# EAGLE library part LPC1113FBD48/302,1 (library WM_Parts)
Embedded - Microcontrollers,LQFP-48
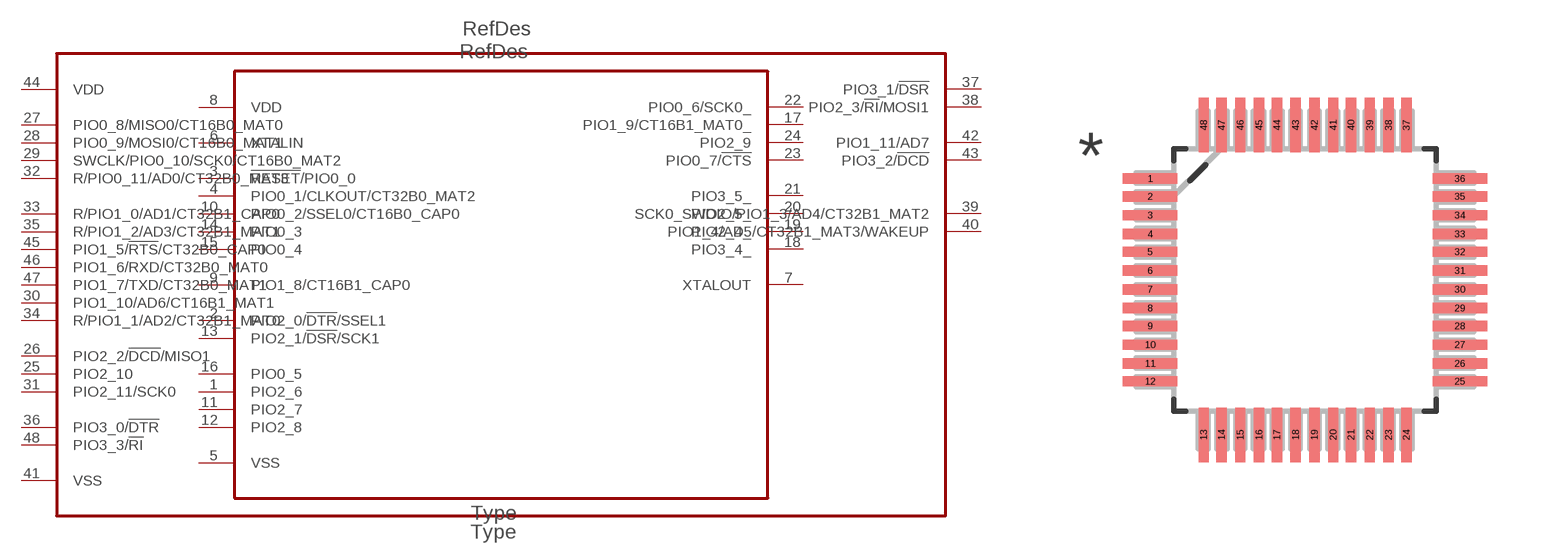
[diagram p0: symbol with the pads of QFP50P900X900X160-48N; footprint QFP50P900X900X160-48N]

Designator prefix U; gates A=LPC1113FBD48/302,1_A B=LPC1113FBD48/302,1_B

## LPC1113FBD48/302,1 (MPN: LPC1113FBD48/302,1; OC_FARNELL: 2072186; OC_NEWARK: 83T7137; PACKAGE: LQFP-48; SUPPLIER: NXP)  [QFP50P900X900X160-48N]
1  A:PIO2_6
2  A:PIO2_0/!DTR!/SSEL1
3  A:!RESET!/PIO0_0  in
4  A:PIO0_1/CLKOUT/CT32B0_MAT2
5  A:VSS  pas
6  A:XTALIN  in
7  A:XTALOUT  out
8  A:VDD  pwr
9  A:PIO1_8/CT16B1_CAP0
10  A:PIO0_2/SSEL0/CT16B0_CAP0
11  A:PIO2_7
12  A:PIO2_8
13  A:PIO2_1/!DSR!/SCK1
14  A:PIO0_3
15  A:PIO0_4
16  A:PIO0_5
17  A:PIO1_9/CT16B1_MAT0_
18  A:PIO3_4_
19  A:PIO2_4_
20  A:PIO2_5_
21  A:PIO3_5_
22  A:PIO0_6/SCK0_
23  A:PIO0_7/!CTS!
24  A:PIO2_9
25  B:PIO2_10
26  B:PIO2_2/!DCD!/MISO1
27  B:PIO0_8/MISO0/CT16B0_MAT0
28  B:PIO0_9/MOSI0/CT16B0_MAT1
29  B:SWCLK/PIO0_10/SCK0/CT16B0_MAT2
30  B:PIO1_10/AD6/CT16B1_MAT1
31  B:PIO2_11/SCK0
32  B:R/PIO0_11/AD0/CT32B0_MAT3
33  B:R/PIO1_0/AD1/CT32B1_CAP0
34  B:R/PIO1_1/AD2/CT32B1_MAT0
35  B:R/PIO1_2/AD3/CT32B1_MAT1
36  B:PIO3_0/!DTR!
37  B:PIO3_1/!DSR!
38  B:PIO2_3/!RI!/MOSI1
39  B:SCK0_SWDIO/PIO1_3/AD4/CT32B1_MAT2
40  B:PIO1_4/AD5/CT32B1_MAT3/WAKEUP
41  B:VSS  pas
42  B:PIO1_11/AD7
43  B:PIO3_2/!DCD!
44  B:VDD  pwr
45  B:PIO1_5/!RTS!/CT32B0_CAP0
46  B:PIO1_6/RXD/CT32B0_MAT0
47  B:PIO1_7/TXD/CT32B0_MAT1
48  B:PIO3_3/!RI!

## Footprint QFP50P900X900X160-48N (pad centres in mm)
smd 1.473 x 0.279: 1 -4.191,2.743; 2 -4.191,2.261; 3 -4.191,1.753; 4 -4.191,1.245; 5 -4.191,0.762; 6 -4.191,0.254; 7 -4.191,-0.254; 8 -4.191,-0.762; 9 -4.191,-1.245; 10 -4.191,-1.753; 11 -4.191,-2.261; 12 -4.191,-2.743; 25 4.191,-2.743; 26 4.191,-2.261; 27 4.191,-1.753; 28 4.191,-1.245; 29 4.191,-0.762; 30 4.191,-0.254; 31 4.191,0.254; 32 4.191,0.762; 33 4.191,1.245; 34 4.191,1.753; 35 4.191,2.261; 36 4.191,2.743
smd 0.279 x 1.473: 13 -2.743,-4.191; 14 -2.261,-4.191; 15 -1.753,-4.191; 16 -1.245,-4.191; 17 -0.762,-4.191; 18 -0.254,-4.191; 19 0.254,-4.191; 20 0.762,-4.191; 21 1.245,-4.191; 22 1.753,-4.191; 23 2.261,-4.191; 24 2.743,-4.191; 37 2.743,4.191; 38 2.261,4.191; 39 1.753,4.191; 40 1.245,4.191; 41 0.762,4.191; 42 0.254,4.191; 43 -0.254,4.191; 44 -0.762,4.191; 45 -1.245,4.191; 46 -1.753,4.191; 47 -2.261,4.191; 48 -2.743,4.191